# EAGLE library part CSR8635 (library CSR8635)
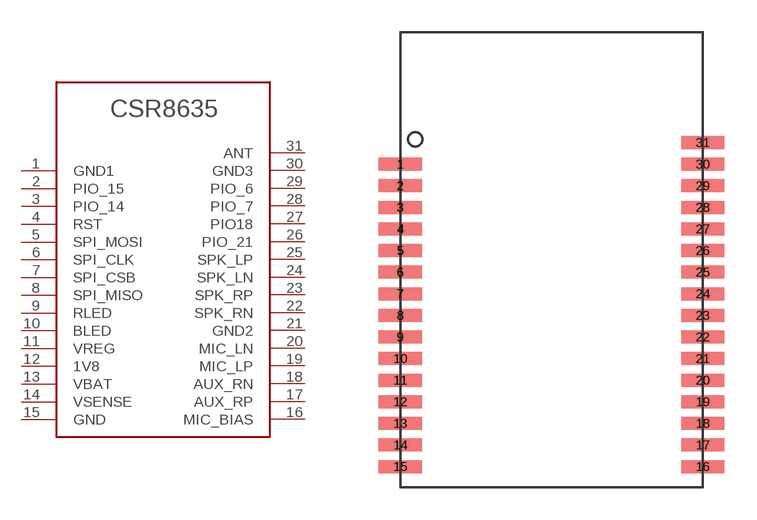
[diagram p0: symbol with the pads of CSR8635PACKAGE; footprint CSR8635PACKAGE]

Designator prefix -

## CSR8635BRANDON_PINER  [CSR8635PACKAGE]
1  GND1  in
2  PIO_15
3  PIO_14
4  RST
5  SPI_MOSI
6  SPI_CLK
7  SPI_CSB
8  SPI_MISO
9  RLED
10  BLED
11  VREG
12  1V8
13  VBAT
14  VSENSE
15  GND
16  MIC_BIAS
17  AUX_RP
18  AUX_RN
19  MIC_LP
20  MIC_LN
21  GND2
22  SPK_RN
23  SPK_RP
24  SPK_LN
25  SPK_LP
26  PIO_21
27  PIO18
28  PIO_7
29  PIO_6
30  GND3
31  ANT

## Footprint CSR8635PACKAGE (pad centres in mm)
smd 2 x 0.6: 1 -7,3.2; 2 -7,2.2; 3 -7,1.2; 4 -7,0.2; 5 -7,-0.8; 6 -7,-1.8; 7 -7,-2.8; 8 -7,-3.8; 9 -7,-4.8; 10 -7,-5.8; 11 -7,-6.8; 12 -7,-7.8; 13 -7,-8.8; 14 -7,-9.8; 15 -7,-10.8; 16 7,-10.8; 17 7,-9.8; 18 7,-8.8; 19 7,-7.8; 20 7,-6.8; 21 7,-5.8; 22 7,-4.8; 23 7,-3.8; 24 7,-2.8; 25 7,-1.8; 26 7,-0.8; 27 7,0.2; 28 7,1.2; 29 7,2.2; 30 7,3.2; 31 7,4.2